# Altium footprint library BJT.PcbLib: 1 footprints
Each footprint in its own frame and in the unit in brackets; x right, y up, seen from the top. Pads: shape width x height; smd on the part's side, far side on the other; paste and mask are expansions set on the pad; w line width, h text height; cw(c..) or ccw(c..) is an arc to the next point about the centre after c.
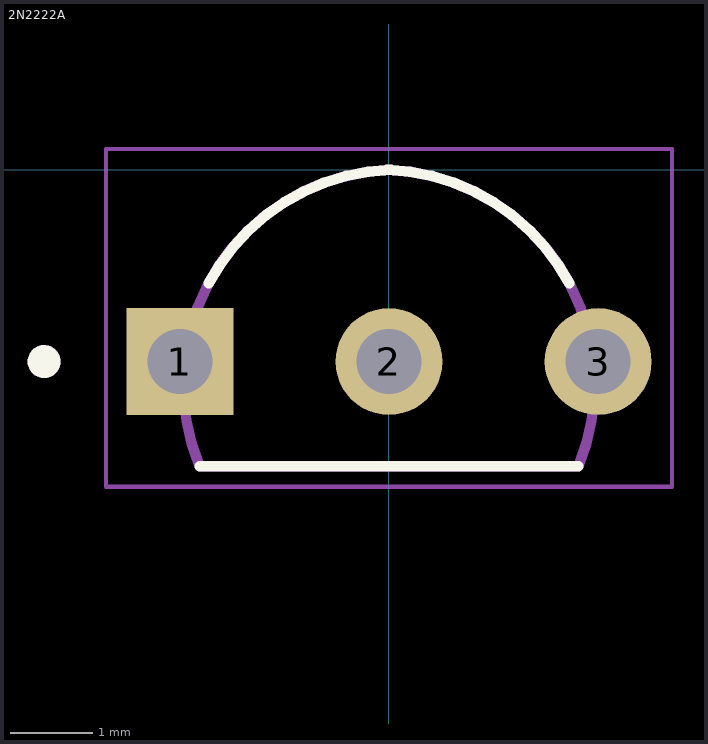
[diagram p0: the footprint, top view; thin cyan lines are the x and y axes]

## 2N2222A [mm]
height 7.5
pads (3):
  rect 1.298x1.298 / inner round 1.298 / far side rect 1.298x1.298 hole 0.79: 1(-2.54,-2.33)
  round 1.298 hole 0.79: 2(0,-2.33) 3(2.54,-2.33)
Top Overlay:
  circle w0.2: c-4.189,-2.33 r0.1
  lines w0.127: -2.3,-3.6 2.3,-3.6 ; -2.19,-1.381 cw(c0.112,-2.605) 0.021,0.001 ; -0.021,0.001 cw(c-0.112,-2.605) 2.19,-1.381
Mechanical 13:
  circle w0.2: c-4.189,-2.33 r0.1
  lines w0.127: -2.307,-3.582 cw(c0.11,-2.605) 0.019,0.001 ; -2.3,-3.6 2.3,-3.6 ; -0.019,0.001 cw(c-0.11,-2.605) 2.307,-3.582
Mechanical 15:
  lines w0.05: -3.439,-3.85 3.439,-3.85 3.439,0.252 -3.439,0.252 -3.439,-3.85
3D body "2N2222A.STEP": height 7.87, standoff -10.16, extent -2.6,-3.939 2.6,0.254